# EAGLE library part SI-60062-F (library NBitWonder)
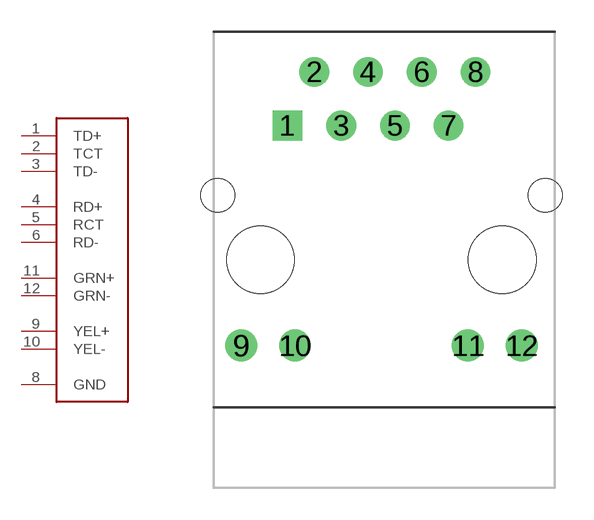
[diagram p18: symbol with the pads of SI-60062-F; footprint SI-60062-F]

Designator prefix -

## SI-60062-F  [SI-60062-F]
1  TD+
2  TCT
3  TD-
4  RD+
5  RCT
6  RD-
8  GND
9  YEL+
10  YEL-
11  GRN+
12  GRN-

## Footprint SI-60062-F (pad centres in mm)
drill 0.9 square: 1 1.27,6.35
drill 0.9 round: 2 2.54,8.89; 3 3.81,6.35; 4 5.08,8.89; 5 6.35,6.35; 6 7.62,8.89; 7 8.89,6.35; 8 10.16,8.89
drill 1 round: 9 -0.914,-4.064; 10 1.626,-4.064; 11 9.804,-4.064; 12 12.344,-4.064
hole 3.2 at 0,0
hole 3.2 at 11.43,0
hole 1.6 at 13.462,3.048
hole 1.6 at -2.032,3.048